# Altium footprint library BAL-NRF02D3.PcbLib: 1 footprints
Each footprint in its own frame and in the unit in brackets; x right, y up, seen from the top. Pads: shape width x height; smd on the part's side, far side on the other; paste and mask are expansions set on the pad; w line width, h text height; cw(c..) or ccw(c..) is an arc to the next point about the centre after c.
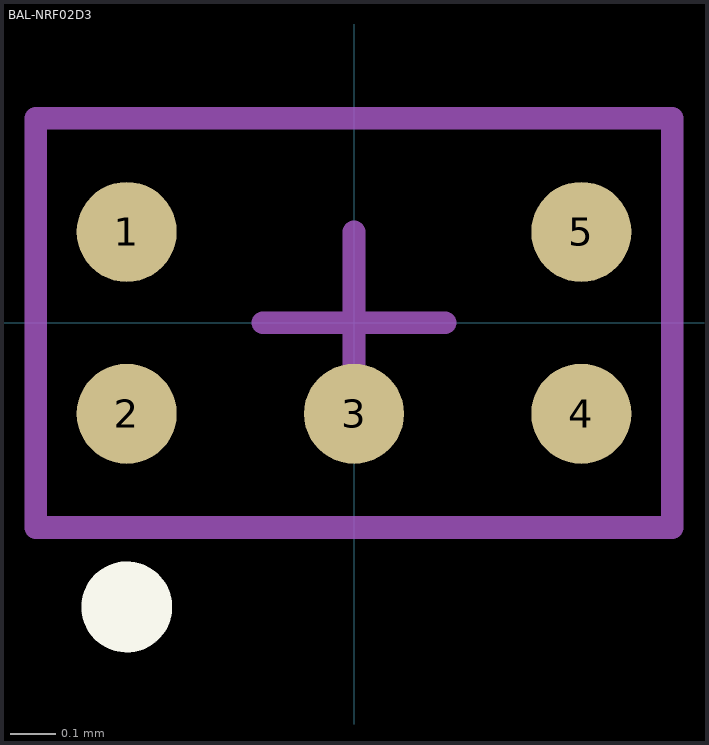
[diagram p0: the footprint, top view; thin cyan lines are the x and y axes]

## BAL-NRF02D3 [mm] "50 ohm nominal input / conjugate match balun to nRF51822-CEAA"
height 0.63
pads (5):
  round 0.22 smd mask+0.05: 1(-0.5,0.2) 2(-0.5,-0.2) 3(0,-0.2) 4(0.5,-0.2) 5(0.5,0.2)
Top Overlay:
  circle w0.1: c-0.5,-0.625 r0.05
Top Courtyard:
  lines w0.05: -0.2,0 0.2,0 ; 0,-0.2 0,0.2 ; -0.7,-0.45 -0.7,0.45 0.7,0.45 0.7,-0.45 -0.7,-0.45